# EAGLE library part TFP410 (library work)
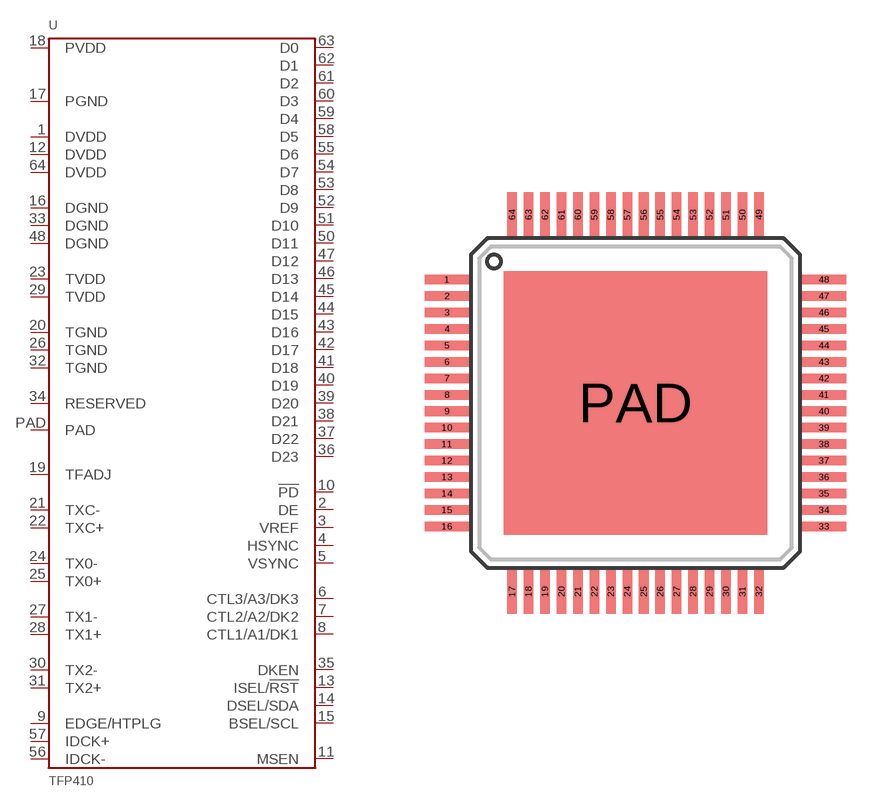
[diagram p43: symbol with the pads of LQFP-64_PAD; footprint LQFP-64_PAD]

Designator prefix U

## TFP410  [LQFP-64_PAD]
1  DVDD
2  DE
3  VREF
4  HSYNC
5  VSYNC
6  CTL3/A3/DK3
7  CTL2/A2/DK2
8  CTL1/A1/DK1
9  EDGE/HTPLG
10  !PD
11  MSEN
12  DVDD
13  ISEL/!RST
14  DSEL/SDA
15  BSEL/SCL
16  DGND
17  PGND
18  PVDD
19  TFADJ
20  TGND
21  TXC-
22  TXC+
23  TVDD
24  TX0-
25  TX0+
26  TGND
27  TX1-
28  TX1+
29  TVDD
30  TX2-
31  TX2+
32  TGND
33  DGND
34  RESERVED
35  DKEN
36  D23
37  D22
38  D21
39  D20
40  D19
41  D18
42  D17
43  D16
44  D15
45  D14
46  D13
47  D12
48  DGND
50  D11
51  D10
52  D9
53  D8
54  D7
55  D6
56  IDCK-
57  IDCK+
58  D5
59  D4
60  D3
61  D2
62  D1
63  D0
64  DVDD
PAD  PAD

## Footprint LQFP-64_PAD (pad centres in mm)
smd 1.35 x 0.29: 1 -5.725,3.75; 2 -5.725,3.25; 3 -5.725,2.75; 4 -5.725,2.25; 5 -5.725,1.75; 6 -5.725,1.25; 7 -5.725,0.75; 8 -5.725,0.25; 9 -5.725,-0.25; 10 -5.725,-0.75; 11 -5.725,-1.25; 12 -5.725,-1.75; 13 -5.725,-2.25; 14 -5.725,-2.75; 15 -5.725,-3.25; 16 -5.725,-3.75; 33 5.725,-3.75; 34 5.725,-3.25; 35 5.725,-2.75; 36 5.725,-2.25; 37 5.725,-1.75; 38 5.725,-1.25; 39 5.725,-0.75; 40 5.725,-0.25; 41 5.725,0.25; 42 5.725,0.75; 43 5.725,1.25; 44 5.725,1.75; 45 5.725,2.25; 46 5.725,2.75; 47 5.725,3.25; 48 5.725,3.75
smd 0.29 x 1.35: 17 -3.75,-5.725; 18 -3.25,-5.725; 19 -2.75,-5.725; 20 -2.25,-5.725; 21 -1.75,-5.725; 22 -1.25,-5.725; 23 -0.75,-5.725; 24 -0.25,-5.725; 25 0.25,-5.725; 26 0.75,-5.725; 27 1.25,-5.725; 28 1.75,-5.725; 29 2.25,-5.725; 30 2.75,-5.725; 31 3.25,-5.725; 32 3.75,-5.725; 49 3.75,5.725; 50 3.25,5.725; 51 2.75,5.725; 52 2.25,5.725; 53 1.75,5.725; 54 1.25,5.725; 55 0.75,5.725; 56 0.25,5.725; 57 -0.25,5.725; 58 -0.75,5.725; 59 -1.25,5.725; 60 -1.75,5.725; 61 -2.25,5.725; 62 -2.75,5.725; 63 -3.25,5.725; 64 -3.75,5.725
smd 8 x 8: PAD 0,0